# Altium footprint library HP48GX3.PcbLib: 18 footprints (part 2 of 2)
Each footprint in its own frame and in the unit in brackets; x right, y up, seen from the top. Pads: shape width x height; smd on the part's side, far side on the other; paste and mask are expansions set on the pad; w line width, h text height; cw(c..) or ccw(c..) is an arc to the next point about the centre after c.
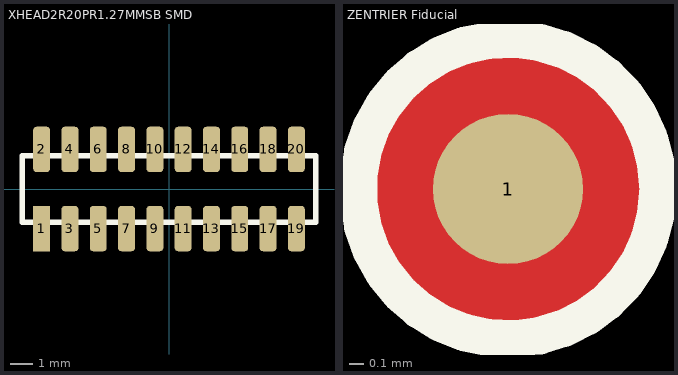
[diagram p1: the footprints below, top view; thin cyan lines are the x and y axes]

## XHEAD2R20PR1.27MMSB SMD [mil]
height 177.17
pads (20):
  rect 30x80 smd: 1(-225,-70)
  rrect40% 30x80 smd: 2(-225,70) 3(-175,-70) 4(-175,70) 5(-125,-70) 6(-125,70) 7(-75,-70) 8(-75,70) 9(-25,-70) 10(-25,70) 11(25,-70) 12(25,70) 13(75,-70) 14(75,70) 15(125,-70) 16(125,70) 17(175,-70) 18(175,70) 19(225,-70) 20(225,70)
Top Layer:
  text "1" at -300,-105 h60
Top Overlay:
  lines w10: -259,-59 259,-59 259,59 -259,59 -259,-59
Top Solder:
  text "1" at -300,-105 h60
3D body "XHEAD2R20PR1.27MMSB SMD.stp": height 177.17, standoff 0, extent -259.05,-88.58 259.06,88.59

## ZENTRIER Fiducial [mil]
pads (1):
  round 40 smd paste+0 mask+20: 1(0,0)
Top Layer:
  pour cut-out: 0,40 3.94,40 11.67,38.46 18.95,35.45 25.5,31.07 31.07,25.5 35.45,18.95 38.46,11.67 40,3.94 40,0 40,-3.94 38.46,-11.67 35.45,-18.95 31.07,-25.5 25.5,-31.07 18.95,-35.45 11.67,-38.46 3.94,-40 0,-40 -3.94,-40 -11.67,-38.46 -18.95,-35.45 -25.5,-31.07 -31.07,-25.5 -35.45,-18.95 -38.46,-11.67 -40,-3.94 -40,0 -40,3.94 -38.46,11.67 -35.45,18.95 -31.07,25.5 -25.5,31.07 -18.95,35.45 -11.67,38.46 -3.94,40
Top Overlay:
  circle w10: c0,0 r40